# EAGLE library part WE-LAN_10/100_BASETX_749013010 (library Wuerth_Elektronik_eiSos_ v6.0)
LAN-Transformer WE-LAN 10/100 Base Tx - Compliant with IEEE 802.3 standards - SMD -- Ethernet -- Power over Ethernet -- 1 Gigabit Ethernet -- Compliant with most IC's for ethernet applications like Intel, AMD, Globespan and Realtek -- Hub, Router, Switch
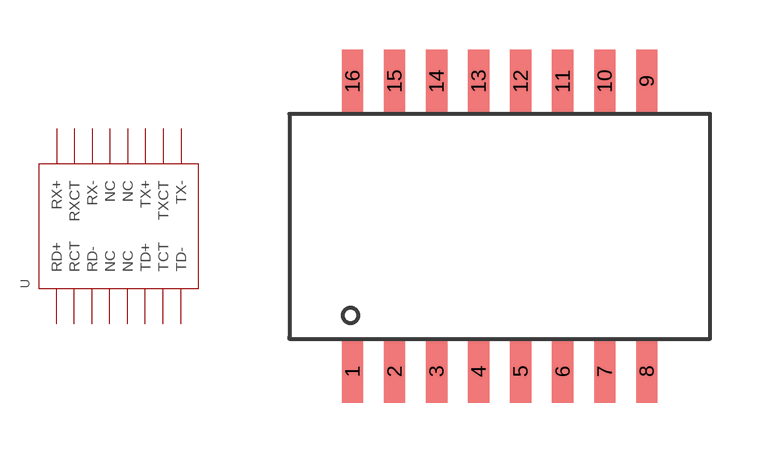
[diagram p22: symbol with the pads of WE-LAN_10/100_BASETX_749013010; footprint WE-LAN_10/100_BASETX_749013010]

Designator prefix -

## WE-LAN_10/100_BASETX_749013010  [WE-LAN_10/100_BASETX_749013010]
1  RD+  pas
2  RCT  pas
3  RD-  pas
4  NC  pas
5  NC  pas
6  TD+  pas
7  TCT  pas
8  TD-  pas
9  TX-  pas
10  TXCT  pas
11  TX+  pas
12  NC  pas
13  NC  pas
14  RX-  pas
15  RXCT  pas
16  RX+  pas

## Footprint WE-LAN_10/100_BASETX_749013010 (pad centres in mm)
WE-LAN 10/100 BaseTx
smd 0.64 x 1.91: 1 -4.445,-4.385; 2 -3.175,-4.385; 3 -1.905,-4.385; 4 -0.635,-4.385; 5 0.635,-4.385; 6 1.905,-4.385; 7 3.175,-4.385; 8 4.445,-4.385; 9 4.445,4.385; 10 3.175,4.385; 11 1.905,4.385; 12 0.635,4.385; 13 -0.635,4.385; 14 -1.905,4.385; 15 -3.175,4.385; 16 -4.445,4.385